# Altium footprint library IC_Intersil_ICM7555IPAZ_eec_0.PcbLib: 1 footprints
Each footprint in its own frame and in the unit in brackets; x right, y up, seen from the top. Pads: shape width x height; smd on the part's side, far side on the other; paste and mask are expansions set on the pad; w line width, h text height; cw(c..) or ccw(c..) is an arc to the next point about the centre after c.
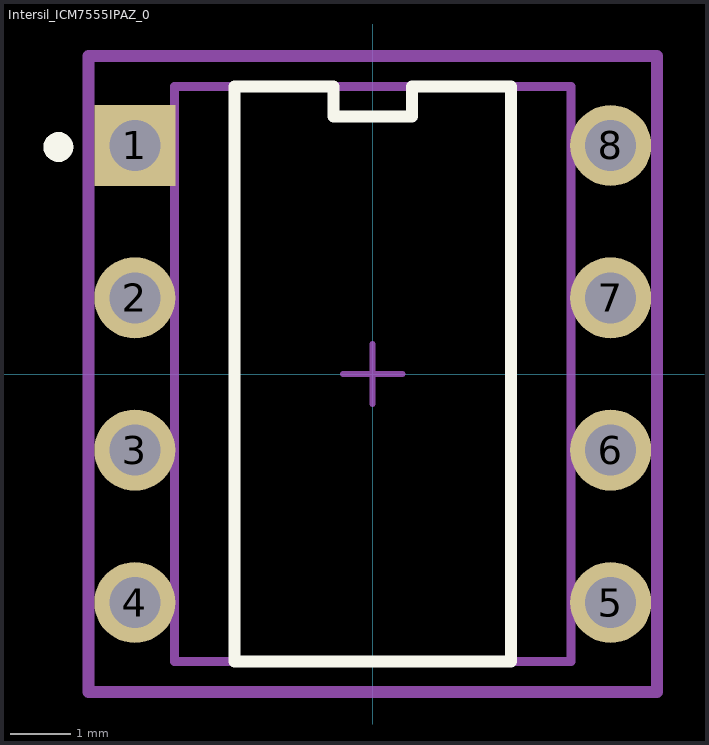
[diagram p0: the footprint, top view; thin cyan lines are the x and y axes]

## Intersil_ICM7555IPAZ_0 [mm]
pads (8):
  rect 1.35x1.35 hole 0.85 paste-1000 mask+0: 1(-3.968,3.81)
  round 1.35 hole 0.85 paste-1000 mask+0: 2(-3.968,1.27) 3(-3.968,-1.27) 4(-3.968,-3.81) 5(3.968,-3.81) 6(3.968,-1.27) 7(3.968,1.27) 8(3.968,3.81)
Top Overlay:
  circle w0.25: c-5.242,3.785 r0.125
  lines w0.2: -2.302,-4.792 -2.302,4.792 -0.658,4.792 -0.658,4.293 0.658,4.293 0.658,4.792 2.302,4.792 2.302,-4.792 -2.302,-4.792
Mechanical 10:
  lines w0.2: -4.743,-5.305 4.743,-5.305 4.743,5.305 -4.743,5.305 -4.743,-5.305
  text ".Designator" at 0,0 h1
Mechanical 12:
  lines w0.15: -3.303,-4.792 3.303,-4.792 3.303,4.792 -3.303,4.792 -3.303,-4.792
Mechanical 15:
  lines w0.1: -0.5,0 0.5,0 ; 0,-0.5 0,0.5
  lines w0.2: -4.743,-5.305 4.743,-5.305 4.743,5.305 -4.743,5.305 -4.743,-5.305
3D body "IC_Intersil_ICM7555IPAZ_eec.STEP": height 0.25, standoff 0, extent -4.743,-5.305 4.743,5.305